# Altium schematic symbol library phc-capacitor.SchLib: 1 symbol
Pins are listed as number, name and electrical type; pins without a type are passive.

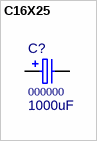
[diagram p0: symbol C16X25]

## C16X25
designator C?, comment 000000  value 1000uF
Aluminum Electrolytic Capacitor; PN: 000000; Package: 16x25mm; ExtraInfo: *
footprint C16X25 (CAP ALUM RADIAL 16x25)
pins: 1, 2
1 alternate drawing of the same symbol